# Altium schematic symbol library BZX84.SchLib: 1 symbol
Pins are listed as number, name and electrical type; pins without a type are passive.

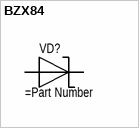
[diagram p0: symbol BZX84]

## BZX84
designator VD?
pins: 1, 3